# EAGLE library part IS61C1024AL (library IS61C1024AL)
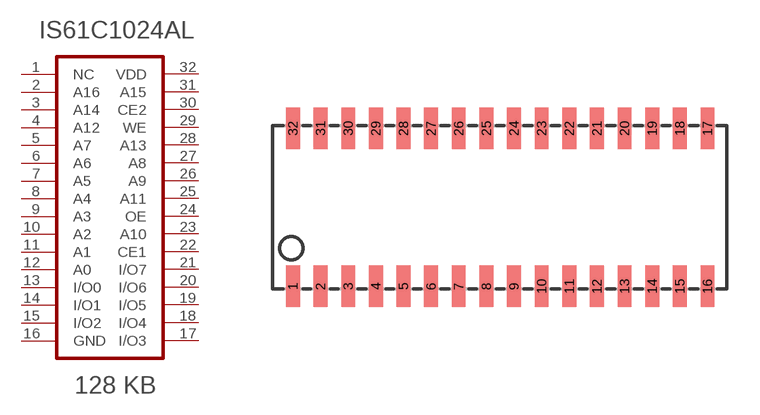
[diagram p0: symbol with the pads of SOJ32/3; footprint SOJ32/3]

Designator prefix -

## IS61C1024AL  [SOJ32/3]
1  NC
2  A16
3  A14
4  A12
5  A7
6  A6
7  A5
8  A4
9  A3
10  A2
11  A1
12  A0
13  I/O0
14  I/O1
15  I/O2
16  GND
17  I/O3
18  I/O4
19  I/O5
20  I/O6
21  I/O7
22  CE1
23  A10
24  OE
25  A11
26  A9
27  A8
28  A13
29  WE
30  CE2
31  A15
32  VDD

## Footprint SOJ32/3 (pad centres in mm)
Small Outline J-Bend
smd 0.635 x 1.905: 1 -8.89,-3.759; 2 -7.62,-3.759; 3 -6.35,-3.759; 4 -5.08,-3.759; 5 -3.81,-3.759; 6 -2.54,-3.759; 7 -1.27,-3.759; 8 0,-3.759; 9 1.27,-3.759; 10 2.54,-3.759; 11 3.81,-3.759; 12 5.08,-3.759; 13 6.35,-3.759; 14 7.62,-3.759; 15 8.89,-3.759; 16 10.16,-3.759; 17 10.16,3.505; 18 8.89,3.505; 19 7.62,3.505; 20 6.35,3.505; 21 5.08,3.505; 22 3.81,3.505; 23 2.54,3.505; 24 1.27,3.505; 25 0,3.505; 26 -1.27,3.505; 27 -2.54,3.505; 28 -3.81,3.505; 29 -5.08,3.505; 30 -6.35,3.505; 31 -7.62,3.505; 32 -8.89,3.505